# Altium schematic symbol library ti.SchLib: 2 symbols
Pins are listed as number, name and electrical type; pins without a type are passive.

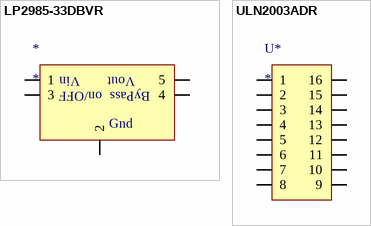
[diagram p0: symbols LP2985-33DBVR to ULN2003ADR]

## LP2985-33DBVR
designator *
footprint LP2985-33DBVR (Linear Regulator 3.3V)
pins: 1, 2, 3, 4, 5
text: Vin; Vout; on/OFF; ByPass; Gnd

## ULN2003ADR
designator U*
footprint ULN2003ADR (Plastic Small Outline, 16 Pin)
pins: 1, 2, 3, 4, 5, 6, 7, 8, 9, 10, 11, 12, 13, 14, 15, 16